# Altium integrated library BS170F.IntLib: 1 symbol
Pins are listed as number, name and electrical type; pins without a type are passive.

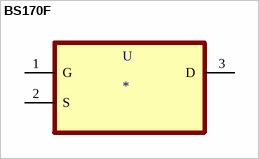
[diagram p0: symbol BS170F]

## BS170F
designator U
N-Channel 60V 0.15mA _Ta_ 330mW _Ta_ Surface Mount SOT-23-3; MP: BS170F; MF: Diodes Inc.; Package: SOT-23 Diodes Inc.; Availability: Unavailable; Value: *; Price: None; SnapEDA_Link: https://www.snapeda.com/parts/BS170F/Diodes%20Inc./view-part/263832/?ref=snap
footprint SOT91P240X120-3N
pins: 1 G, 2 S, 3 D